# Altium schematic symbol library Capacitor.SchLib: 2 symbols
Pins are listed as number, name and electrical type; pins without a type are passive.

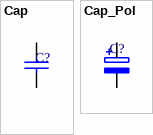
[diagram p0: symbols Cap to Cap_Pol]

## Cap
designator C?
Capacitor
footprint C0603 (Chip Capacitor, Body 1.6x0.8mm, Height 1.0mm, IPC Low Density)
footprint C0805 (Chip Capacitor, Body 2.0x1.2mm, Height 1.3mm, IPC Low Density)
footprint C1206 (Chip Capacitor, Body 3.2x1.6mm, Height 1.5mm, IPC Low Density)
footprint MKT 5mm
footprint CERAM 2.54mm
footprint 330nF/400V MKT
footprint C0402 (Chip Capacitor, Body 1.6x0.8mm, Height 1.0mm, IPC Low Density)
footprint 10nF/310VAC
pins: 1, 2
1 alternate drawing of the same symbol

## Cap_Pol
designator C?
Capacitor Polarized
footprint TANC_A
footprint TANC_B
footprint TANC_C
footprint TANC_D
footprint 100uF/25V_2.5/6.3/11mm
footprint SMD_6.3x5.4mm
footprint 10uf/400V_5/10/20
footprint EECS5R5H155 (1,5F; 5,5VDC; O20,5x6,5mm)
pins: 1, 2